# Altium integrated library TI Microcontroller MSP430 16-bit Ultra-Low Power.IntLib: 1463 symbols (part 5 of 130)
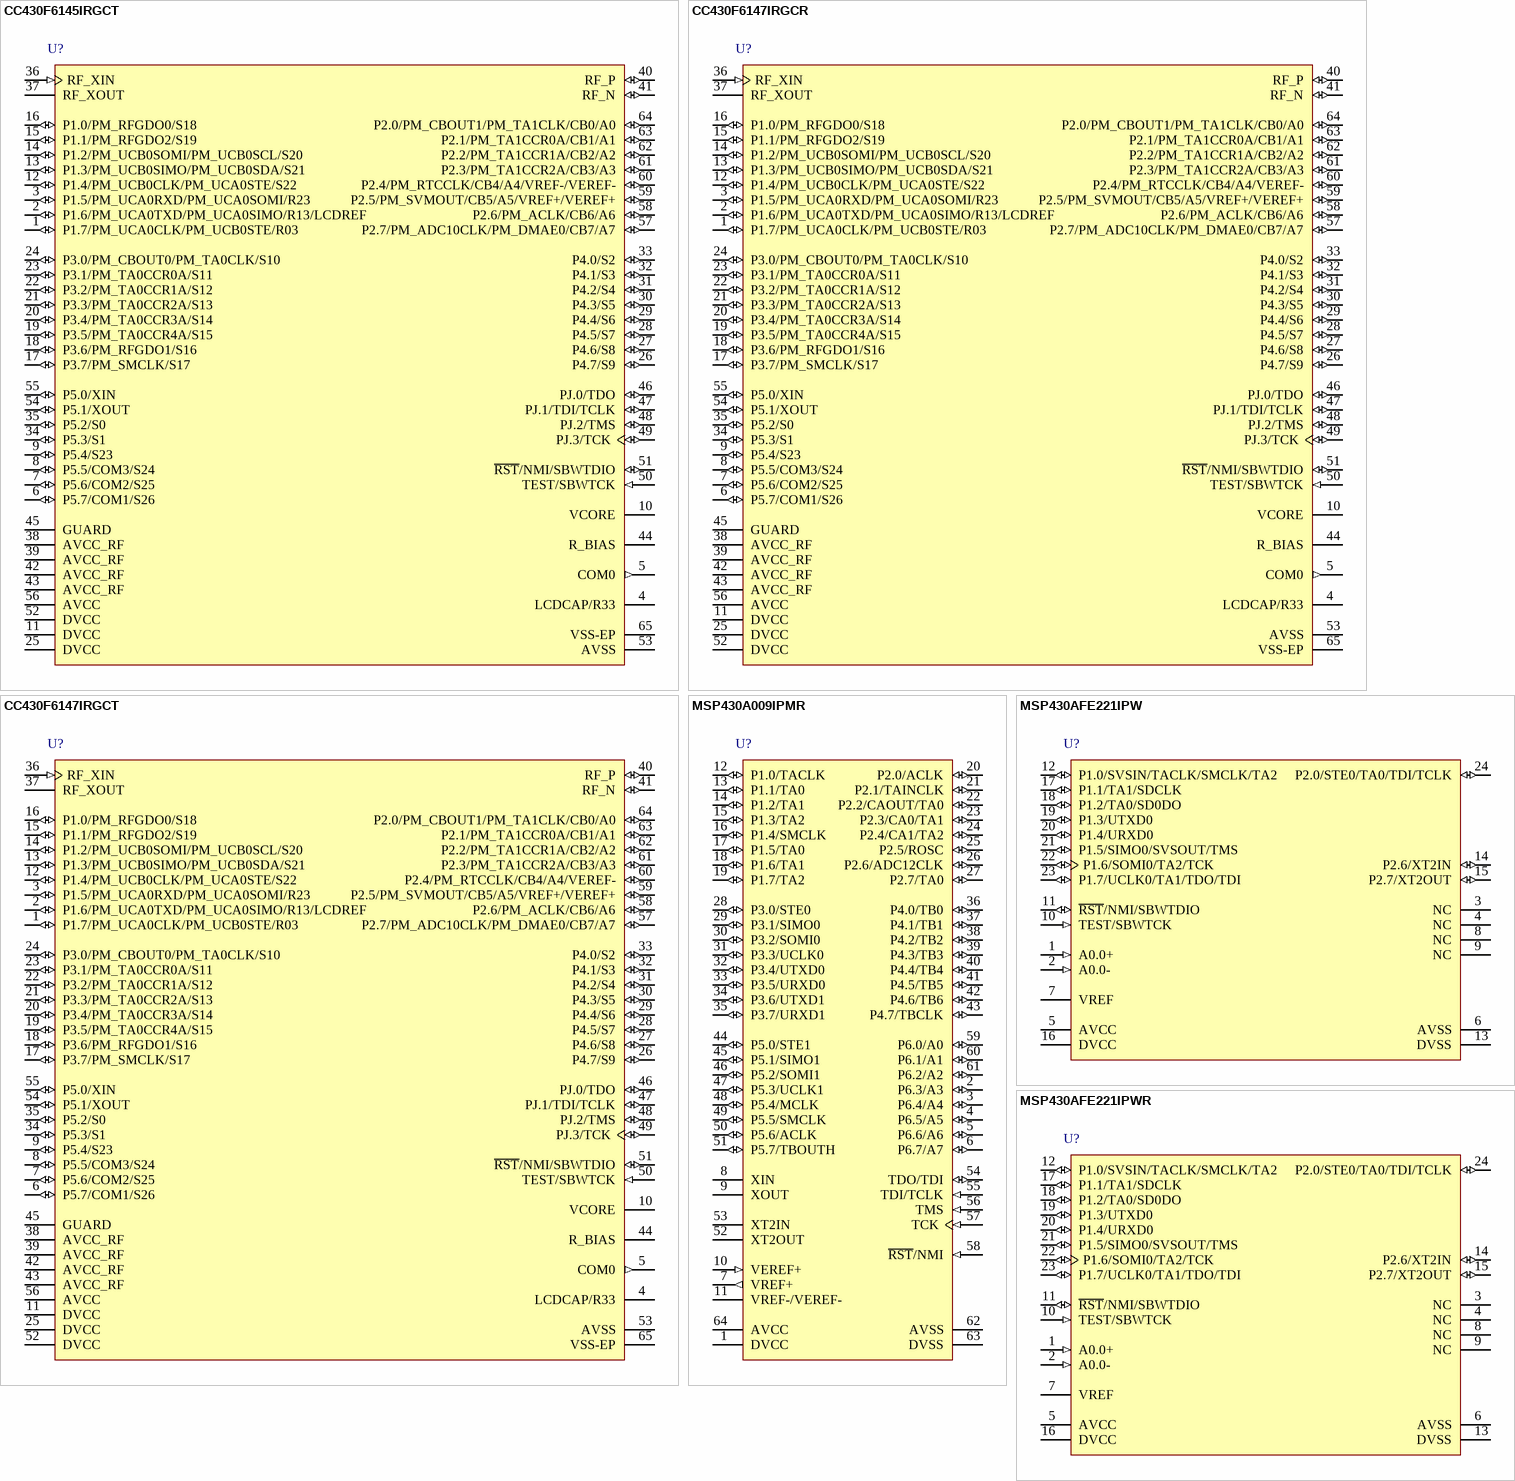
[diagram p239: symbols CC430F6145IRGCT to MSP430AFE221IPWR]

## CC430F6145IRGCT
designator U?
20 MHz MSP430 SoC with RF Core with 16 KB Flash, 2048 B SRAM and 44 GPIOs, -40 to 85 degC, 64-pin QFN (RGZ), Green (RoHS & no Sb/Br); Manufacturer: Texas Instruments; PartNumber: CC430F6145IRGCT; ADC: Yes; ADC Channels: 8; DMA: 3; Flash(KB): 16; Frequency(MHz): 20; GPIO: 44; LCD Segments: 96; Multiplier: 32x32; SRAM(B): 2048; SubFamily: RF SoC Series; Timers - 16-bit: 2; USCI_A (UART/LIN/IrDA/SPI): 1; DatasheetVersion: SLAS555; PackageVersion: 4204106/F; PackageReference: RGC64; PackageDescription: 64-Pin Plastic Flat Pack, Body 9 x 9 mm, Pitch 0.5 mm; Supplier 1: Digi-Key; Supplier Part Number 1: CC430F6145IRGCT-ND; Supplier 2: Newark; Supplier Part Number 2: 27W9349; Supplier 3: Mouser; Supplier Part Number 3: 595-CC430F6145IRGCT; Brown Out Reset: Yes; Comparators: Yes; Eco-Plan: Green (RoHS & no Sb/Br); Real-Time Clock: Yes; SVS: Yes; Temp Sensor: Yes; USCI_B (I2C & SPI): 1; Watchdog: Yes; Mounting Technology: Surface Mount; ComponentLink1Description: Manufacturer URL; ComponentLink1URL: http://www.ti.com/; ComponentLink2Description: Datasheet; ComponentLink2URL: http://www.ti.com/lit/ds/symlink/cc430f6145.pdf; ComponentLink3Description: Package Specification; ComponentLink3URL: http://www.ti.com/lit/ds/symlink/ucd3138.pdf
footprint TI-RGC64-4250X4250TP_N (QFN, 64-Leads, Body 9x9mm, Pitch 0.5mm, Thermal Pad 4.25x4.25mm, IPC Medium Density)
pins: 1 P1.7/PM_UCA0CLK/PM_UCB0STE/R03 (io), 2 P1.6/PM_UCA0TXD/PM_UCA0SIMO/R13/LCDREF (io), 3 P1.5/PM_UCA0RXD/PM_UCA0SOMI/R23 (io), 4 LCDCAP/R33, 5 COM0 (out) "LCD common output COM0 for LCD backplane", 6 P5.7/COM1/S26 (io), 7 P5.6/COM2/S25 (io), 8 P5.5/COM3/S24 (io), 9 P5.4/S23 (io), 10 VCORE "Regulated core power supply", 11 DVCC (power) "Digital power supply", 12 P1.4/PM_UCB0CLK/PM_UCA0STE/S22 (io), 13 P1.3/PM_UCB0SIMO/PM_UCB0SDA/S21 (io), 14 P1.2/PM_UCB0SOMI/PM_UCB0SCL/S20 (io), 15 P1.1/PM_RFGDO2/S19 (io), 16 P1.0/PM_RFGDO0/S18 (io), 17 P3.7/PM_SMCLK/S17 (io), 18 P3.6/PM_RFGDO1/S16 (io), 19 P3.5/PM_TA0CCR4A/S15 (io), 20 P3.4/PM_TA0CCR3A/S14 (io), 21 P3.3/PM_TA0CCR2A/S13 (io), 22 P3.2/PM_TA0CCR1A/S12 (io), 23 P3.1/PM_TA0CCR0A/S11 (io), 24 P3.0/PM_CBOUT0/PM_TA0CLK/S10 (io), 25 DVCC (power) "Digital power supply", 26 P4.7/S9 (io), 27 P4.6/S8 (io), 28 P4.5/S7 (io), 29 P4.4/S6 (io), 30 P4.3/S5 (io), 31 P4.2/S4 (io), 32 P4.1/S3 (io), 33 P4.0/S2 (io), 34 P5.3/S1 (io), 35 P5.2/S0 (io), 36 RF_XIN (in) "Input terminal for RF crystal oscillator, or external clock input", 37 RF_XOUT "Output terminal for RF crystal oscillator", 38 AVCC_RF (power) "Radio analog power supply", 39 AVCC_RF (power) "Radio analog power supply", 40 RF_P (io) "Positive RF input to LNA in receive mode Positive RF output from PA in transmit mode", 41 RF_N (io) "Negative RF input to LNA in receive mode Negative RF output from PA in transmit mode", 42 AVCC_RF (power) "Radio analog power supply", 43 AVCC_RF (power) "Radio analog power supply", 44 R_BIAS "External bias resistor for radio reference current", 45 GUARD (power) "Power supply connection for digital noise isolation", 46 PJ.0/TDO (io), 47 PJ.1/TDI/TCLK (io), 48 PJ.2/TMS (io), 49 PJ.3/TCK (io), 50 TEST/SBWTCK (in), 51 ~{RST}/NMI/SBWTDIO (io), 52 DVCC (power) "Digital power supply", 53 AVSS "Analog ground supply for ADC12", 54 P5.1/XOUT (io), 55 P5.0/XIN (io), 56 AVCC (power) "Analog power supply", 57 P2.7/PM_ADC10CLK/PM_DMAE0/CB7/A7 (io), 58 P2.6/PM_ACLK/CB6/A6 (io), 59 P2.5/PM_SVMOUT/CB5/A5/VREF+/VEREF+ (io), 60 P2.4/PM_RTCCLK/CB4/A4/VREF-/VEREF- (io), 61 P2.3/PM_TA1CCR2A/CB3/A3 (io), 62 P2.2/PM_TA1CCR1A/CB2/A2 (io), 63 P2.1/PM_TA1CCR0A/CB1/A1 (io), 64 P2.0/PM_CBOUT1/PM_TA1CLK/CB0/A0 (io), 65 VSS-EP "Ground supply The exposed die attach pad must be connected to a solid ground plane as this is the ground connection for the chip."

## CC430F6147IRGCR
designator U?
20 MHz MSP430 SoC with RF Core with 32 KB Flash, 4096 B SRAM and 44 GPIOs,-40 to 85 degC, 64-pin QFN (RGZ), Green (RoHS & no Sb/Br); Manufacturer: Texas Instruments; PartNumber: CC430F6147IRGCR; ADC: Yes; ADC Channels: 8; DMA: 3; Flash(KB): 32; Frequency(MHz): 20; GPIO: 44; LCD Segments: 96; Multiplier: 32x32; SRAM(B): 4096; SubFamily: RF SoC Series; Timers - 16-bit: 2; USCI_A (UART/LIN/IrDA/SPI): 1; DatasheetVersion: SLAS555; PackageVersion: 4204106/F; PackageReference: RGC64; PackageDescription: 64-Pin Plastic Flat Pack, Body 9 x 9 mm, Pitch 0.5 mm; Supplier 1: Digi-Key; Supplier Part Number 1: CC430F6147IRGCR-ND; Supplier 2: Newark; Supplier Part Number 2: 94T0504; Supplier 3: Mouser; Supplier Part Number 3: 595-CC430F6147IRGCR; Brown Out Reset: Yes; Comparators: Yes; Eco-Plan: Green (RoHS & no Sb/Br); Real-Time Clock: Yes; SVS: Yes; Temp Sensor: Yes; USCI_B (I2C & SPI): 1; Watchdog: Yes; Mounting Technology: Surface Mount; ComponentLink1Description: Manufacturer URL; ComponentLink1URL: http://www.ti.com/; ComponentLink2Description: Datasheet; ComponentLink2URL: http://www.ti.com/lit/ds/symlink/cc430f6147.pdf; ComponentLink3Description: Package Specification; ComponentLink3URL: http://www.ti.com/lit/ds/symlink/ucd3138.pdf
footprint TI-RGC64-4250X4250TP_N (QFN, 64-Leads, Body 9x9mm, Pitch 0.5mm, Thermal Pad 4.25x4.25mm, IPC Medium Density)
pins: 1 P1.7/PM_UCA0CLK/PM_UCB0STE/R03 (io), 2 P1.6/PM_UCA0TXD/PM_UCA0SIMO/R13/LCDREF (io), 3 P1.5/PM_UCA0RXD/PM_UCA0SOMI/R23 (io), 4 LCDCAP/R33, 5 COM0 (out) "LCD common output COM0 for LCD backplane", 6 P5.7/COM1/S26 (io), 7 P5.6/COM2/S25 (io), 8 P5.5/COM3/S24 (io), 9 P5.4/S23 (io), 10 VCORE "Regulated core power supply", 11 DVCC (power) "Digital power supply", 12 P1.4/PM_UCB0CLK/PM_UCA0STE/S22 (io), 13 P1.3/PM_UCB0SIMO/PM_UCB0SDA/S21 (io), 14 P1.2/PM_UCB0SOMI/PM_UCB0SCL/S20 (io), 15 P1.1/PM_RFGDO2/S19 (io), 16 P1.0/PM_RFGDO0/S18 (io), 17 P3.7/PM_SMCLK/S17 (io), 18 P3.6/PM_RFGDO1/S16 (io), 19 P3.5/PM_TA0CCR4A/S15 (io), 20 P3.4/PM_TA0CCR3A/S14 (io), 21 P3.3/PM_TA0CCR2A/S13 (io), 22 P3.2/PM_TA0CCR1A/S12 (io), 23 P3.1/PM_TA0CCR0A/S11 (io), 24 P3.0/PM_CBOUT0/PM_TA0CLK/S10 (io), 25 DVCC (power) "Digital power supply", 26 P4.7/S9 (io), 27 P4.6/S8 (io), 28 P4.5/S7 (io), 29 P4.4/S6 (io), 30 P4.3/S5 (io), 31 P4.2/S4 (io), 32 P4.1/S3 (io), 33 P4.0/S2 (io), 34 P5.3/S1 (io), 35 P5.2/S0 (io), 36 RF_XIN (in) "Input terminal for RF crystal oscillator or external clock input", 37 RF_XOUT "Output terminal for RF crystal oscillator", 38 AVCC_RF (power) "Radio analog power supply", 39 AVCC_RF (power) "Radio analog power supply", 40 RF_P (io) "Positive RF input to LNA in receive mode.Positive RF output from PA in transmit mode.", 41 RF_N (io) "Negative RF input to LNA in receive mode.Negative RF output from PA in transmit mode.", 42 AVCC_RF (power) "Radio analog power supply", 43 AVCC_RF (power) "Radio analog power supply", 44 R_BIAS "External bias resistor for radio reference current", 45 GUARD (power) "Power supply connection for digital noise isolation", 46 PJ.0/TDO (io), 47 PJ.1/TDI/TCLK (io), 48 PJ.2/TMS (io), 49 PJ.3/TCK (io), 50 TEST/SBWTCK (in), 51 ~{RST}/NMI/SBWTDIO (io), 52 DVCC (power) "Digital power supply", 53 AVSS "Analog ground supply for ADC10", 54 P5.1/XOUT (io), 55 P5.0/XIN (io), 56 AVCC (power) "Analog power supply", 57 P2.7/PM_ADC10CLK/PM_DMAE0/CB7/A7 (io), 58 P2.6/PM_ACLK/CB6/A6 (io), 59 P2.5/PM_SVMOUT/CB5/A5/VREF+/VEREF+ (io), 60 P2.4/PM_RTCCLK/CB4/A4/VEREF- (io), 61 P2.3/PM_TA1CCR2A/CB3/A3 (io), 62 P2.2/PM_TA1CCR1A/CB2/A2 (io), 63 P2.1/PM_TA1CCR0A/CB1/A1 (io), 64 P2.0/PM_CBOUT1/PM_TA1CLK/CB0/A0 (io), 65 VSS-EP "Ground supply.The exposed die attach pad must be connected to a solid ground plane as this is the ground connection for the chip."

## CC430F6147IRGCT
designator U?
20 MHz MSP430 SoC with RF Core with 32 KB Flash, 4096 B SRAM and 44 GPIOs,-40 to 85 degC, 64-pin QFN (RGZ), Green (RoHS & no Sb/Br); Manufacturer: Texas Instruments; PartNumber: CC430F6147IRGCT; ADC: Yes; ADC Channels: 8; DMA: 3; Flash(KB): 32; Frequency(MHz): 20; GPIO: 44; LCD Segments: 96; Multiplier: 32x32; SRAM(B): 4096; SubFamily: RF SoC Series; Timers - 16-bit: 2; USCI_A (UART/LIN/IrDA/SPI): 1; DatasheetVersion: SLAS555; PackageVersion: 4204106/F; PackageReference: RGC64; PackageDescription: 64-Pin Plastic Flat Pack, Body 9 x 9 mm, Pitch 0.5 mm; Supplier 1: Digi-Key; Supplier Part Number 1: CC430F6147IRGCT-ND; Supplier 2: Newark; Supplier Part Number 2: 27W9350; Supplier 3: Mouser; Supplier Part Number 3: 595-CC430F6147IRGCT; Brown Out Reset: Yes; Comparators: Yes; Eco-Plan: Green (RoHS & no Sb/Br); Real-Time Clock: Yes; SVS: Yes; Temp Sensor: Yes; USCI_B (I2C & SPI): 1; Watchdog: Yes; Mounting Technology: Surface Mount; ComponentLink1Description: Manufacturer URL; ComponentLink1URL: http://www.ti.com/; ComponentLink2Description: Datasheet; ComponentLink2URL: http://www.ti.com/lit/ds/symlink/cc430f6147.pdf; ComponentLink3Description: Package Specification; ComponentLink3URL: http://www.ti.com/lit/ds/symlink/ucd3138.pdf
footprint TI-RGC64-4250X4250TP_N (QFN, 64-Leads, Body 9x9mm, Pitch 0.5mm, Thermal Pad 4.25x4.25mm, IPC Medium Density)
pins: 1 P1.7/PM_UCA0CLK/PM_UCB0STE/R03 (io), 2 P1.6/PM_UCA0TXD/PM_UCA0SIMO/R13/LCDREF (io), 3 P1.5/PM_UCA0RXD/PM_UCA0SOMI/R23 (io), 4 LCDCAP/R33, 5 COM0 (out) "LCD common output COM0 for LCD backplane", 6 P5.7/COM1/S26 (io), 7 P5.6/COM2/S25 (io), 8 P5.5/COM3/S24 (io), 9 P5.4/S23 (io), 10 VCORE "Regulated core power supply", 11 DVCC (power) "Digital power supply", 12 P1.4/PM_UCB0CLK/PM_UCA0STE/S22 (io), 13 P1.3/PM_UCB0SIMO/PM_UCB0SDA/S21 (io), 14 P1.2/PM_UCB0SOMI/PM_UCB0SCL/S20 (io), 15 P1.1/PM_RFGDO2/S19 (io), 16 P1.0/PM_RFGDO0/S18 (io), 17 P3.7/PM_SMCLK/S17 (io), 18 P3.6/PM_RFGDO1/S16 (io), 19 P3.5/PM_TA0CCR4A/S15 (io), 20 P3.4/PM_TA0CCR3A/S14 (io), 21 P3.3/PM_TA0CCR2A/S13 (io), 22 P3.2/PM_TA0CCR1A/S12 (io), 23 P3.1/PM_TA0CCR0A/S11 (io), 24 P3.0/PM_CBOUT0/PM_TA0CLK/S10 (io), 25 DVCC (power) "Digital power supply", 26 P4.7/S9 (io), 27 P4.6/S8 (io), 28 P4.5/S7 (io), 29 P4.4/S6 (io), 30 P4.3/S5 (io), 31 P4.2/S4 (io), 32 P4.1/S3 (io), 33 P4.0/S2 (io), 34 P5.3/S1 (io), 35 P5.2/S0 (io), 36 RF_XIN (in) "Input terminal for RF crystal oscillator or external clock input", 37 RF_XOUT "Output terminal for RF crystal oscillator", 38 AVCC_RF (power) "Radio analog power supply", 39 AVCC_RF (power) "Radio analog power supply", 40 RF_P (io) "Positive RF input to LNA in receive mode.Positive RF output from PA in transmit mode.", 41 RF_N (io) "Negative RF input to LNA in receive mode.Negative RF output from PA in transmit mode.", 42 AVCC_RF (power) "Radio analog power supply", 43 AVCC_RF (power) "Radio analog power supply", 44 R_BIAS "External bias resistor for radio reference current", 45 GUARD (power) "Power supply connection for digital noise isolation", 46 PJ.0/TDO (io), 47 PJ.1/TDI/TCLK (io), 48 PJ.2/TMS (io), 49 PJ.3/TCK (io), 50 TEST/SBWTCK (in), 51 ~{RST}/NMI/SBWTDIO (io), 52 DVCC (power) "Digital power supply", 53 AVSS "Analog ground supply for ADC10", 54 P5.1/XOUT (io), 55 P5.0/XIN (io), 56 AVCC (power) "Analog power supply", 57 P2.7/PM_ADC10CLK/PM_DMAE0/CB7/A7 (io), 58 P2.6/PM_ACLK/CB6/A6 (io), 59 P2.5/PM_SVMOUT/CB5/A5/VREF+/VEREF+ (io), 60 P2.4/PM_RTCCLK/CB4/A4/VEREF- (io), 61 P2.3/PM_TA1CCR2A/CB3/A3 (io), 62 P2.2/PM_TA1CCR1A/CB2/A2 (io), 63 P2.1/PM_TA1CCR0A/CB1/A1 (io), 64 P2.0/PM_CBOUT1/PM_TA1CLK/CB0/A0 (io), 65 VSS-EP "Ground supply.The exposed die attach pad must be connected to a solid ground plane as this is the ground connection for the chip."

## MSP430A009IPMR
designator U?
8 MHz Mixed Signal Microcontroller with 48 KB Flash, 2048 B SRAM and 48 GPIOs, -40 to 85 degC, 64-pin QFP (PM), Green (RoHS & no Sb/Br); Manufacturer: Texas Instruments; PartNumber: MSP430A009IPMR; ADC: 12-bit SAR; ADC Channels: 8; Comparators: Yes; Flash(KB): 48; Multiplier: 16x16; SRAM(B): 2048; SubFamily: 1 Series; Timers - 16-bit: 2; DatasheetVersion: SLAS272F; PackageVersion: 4040152/C; PackageReference: PM64; PackageDescription: 64-Pin Plastic Quad Flat Pack, Body 10 x 10 mm, Pitch 0.5 mm; Supplier 1: Digi-Key; Supplier Part Number 1: MSP430A009IPMR-ND; Supplier 2: Mouser; Supplier Part Number 2: 595-MSP430A009IPMR; Eco-Plan: Green (RoHS & no Sb/Br); Frequency(MHz): 8; GPIO: 48; Temp Sensor: Yes; USART: 2; Watchdog: Yes; Mounting Technology: Surface Mount; Code_JEDEC: MS-026; ComponentLink1Description: Manufacturer URL; ComponentLink1URL: http://www.ti.com/; ComponentLink2Description: Datasheet; ComponentLink2URL: http://www.ti.com/general/docs/lit/getliterature.tsp?genericPartNumber=MSP430F148&fileType=pdf; ComponentLink3Description: Package Specification; ComponentLink3URL: http://www.ti.com/lit/ml/mtqf008a/mtqf008a.pdf
footprint TI-PM64_N (QFP, 64-Leads, Body 10x10mm, Pitch 0.5mm, IPC Medium Density)
pins: 1 DVCC (power) "Digital supply voltage, positive terminal. Supplies all digital parts.", 2 P6.3/A3 (io), 3 P6.4/A4 (io), 4 P6.5/A5 (io), 5 P6.6/A6 (io), 6 P6.7/A7 (io), 7 VREF+ (out) "Output of positive terminal of the reference voltage in the ADC", 8 XIN "Input port for crystal oscillator XT1. Standard or watch crystals can be connected.", 9 XOUT "Output terminal of crystal oscillator XT1", 10 VEREF+ (in) "Input for an external reference voltage to the ADC", 11 VREF-/VEREF-, 12 P1.0/TACLK (io), 13 P1.1/TA0 (io), 14 P1.2/TA1 (io), 15 P1.3/TA2 (io), 16 P1.4/SMCLK (io), 17 P1.5/TA0 (io), 18 P1.6/TA1 (io), 19 P1.7/TA2 (io), 20 P2.0/ACLK (io), 21 P2.1/TAINCLK (io), 22 P2.2/CAOUT/TA0 (io), 23 P2.3/CA0/TA1 (io), 24 P2.4/CA1/TA2 (io), 25 P2.5/ROSC (io), 26 P2.6/ADC12CLK (io), 27 P2.7/TA0 (io), 28 P3.0/STE0 (io), 29 P3.1/SIMO0 (io), 30 P3.2/SOMI0 (io), 31 P3.3/UCLK0 (io), 32 P3.4/UTXD0 (io), 33 P3.5/URXD0 (io), 34 P3.6/UTXD1 (io), 35 P3.7/URXD1 (io), 36 P4.0/TB0 (io), 37 P4.1/TB1 (io), 38 P4.2/TB2 (io), 39 P4.3/TB3 (io), 40 P4.4/TB4 (io), 41 P4.5/TB5 (io), 42 P4.6/TB6 (io), 43 P4.7/TBCLK (io), 44 P5.0/STE1 (io), 45 P5.1/SIMO1 (io), 46 P5.2/SOMI1 (io), 47 P5.3/UCLK1 (io), 48 P5.4/MCLK (io), 49 P5.5/SMCLK (io), 50 P5.6/ACLK (io), 51 P5.7/TBOUTH (io), 52 XT2OUT "Output terminal of crystal oscillator XT2", 53 XT2IN "Input port for crystal oscillator XT2. Only standard crystals can be connected.", 54 TDO/TDI (io), 55 TDI/TCLK (in), 56 TMS (in) "Test mode select. TMS is used as an input port for device programming and test.", 57 TCK (in) "Test clock. TCK is the clock input port for device programming test and bootstrap loader start (in Flash devices).", 58 ~{RST}/NMI (in), 59 P6.0/A0 (io), 60 P6.1/A1 (io), 61 P6.2/A2 (io), 62 AVSS (power) "Analog supply voltage, negative terminal. Supplies the analog portion of the analog-to-digital converter.", 63 DVSS (power) "Digital supply voltage, negative terminal. Supplies all digital parts.", 64 AVCC (power) "Analog supply voltage, positive terminal. Supplies the analog portion of the analog-to-digital converter."

## MSP430AFE221IPW
designator U?
12 MHz Mixed Signal Microcontroller with 4 KB Flash, 256 B SRAM and 11 GPIOs, 24-pin SOP (PW), Green (RoHS & no Sb/Br); Manufacturer: Texas Instruments; PartNumber: MSP430AFE221IPW; ADC: 24-bit Sigma Delta; ADC Channels: 1; Brown Out Reset: Yes; Flash(KB): 4; Frequency(MHz): 12; GPIO: 11; Multiplier: 16x16; SRAM(B): 256; SubFamily: 2 Series; DatasheetVersion: SLAS701A; PackageVersion: 4040064-6/G; PackageReference: PW24; PackageDescription: 24-Pin Plastic Small Outline, Body 7.8 x 4.4 mm, Pitch 0.65 mm; Supplier 1: Digi-Key; Supplier Part Number 1: 296-28393-ND; Supplier 2: Farnell; Supplier Part Number 2: 2008422; Supplier 3: Newark; Supplier Part Number 3: 45T9748; Supplier 4: Mouser; Supplier Part Number 4: 595-MSP430AFE221IPW; Eco-Plan: Green (RoHS & no Sb/Br); SVS: Yes; Temp Sensor: Yes; Timers - 16-bit: 1; USART: 1; Watchdog: Yes; Mounting Technology: Surface Mount; Code_JEDEC: MO-153; ComponentLink1Description: Manufacturer URL; ComponentLink1URL: http://www.ti.com/; ComponentLink2Description: Datasheet; ComponentLink2URL: http://www.ti.com/general/docs/lit/getliterature.tsp?genericPartNumber=MSP430AFE221&fileType=pdf; ComponentLink3Description: Package Specification; ComponentLink3URL: http://www.ti.com/litv/pdf/mpds363
footprint TI-PW24_N (SOP, 24-Leads, Body 7.8x4.4mm, Pitch 0.65mm, IPC Medium Density)
pins: 1 A0.0+ (in) "SD24_A positive analog input A0.0", 2 A0.0- (in) "SD24_A negative analog input A0.0", 3 NC "Connect NC pins to analog ground (AVSS)", 4 NC "Connect NC pins to analog ground (AVSS)", 5 AVCC (power) "Analog supply voltage, positive terminal. Must not power up prior to DVCC.", 6 AVSS (power) "Analog supply voltage, negative terminal", 7 VREF "Input for an external reference voltage/ output for internal reference voltage (can be used as mid-voltage)", 8 NC "Connect NC pins to analog ground (AVSS)", 9 NC "Connect NC pins to analog ground (AVSS)", 10 TEST/SBWTCK (in), 11 ~{RST}/NMI/SBWTDIO (io), 12 P1.0/SVSIN/TACLK/SMCLK/TA2 (io), 13 DVSS (power) "Digital supply voltage, negative terminal", 14 P2.6/XT2IN (io), 15 P2.7/XT2OUT (io), 16 DVCC (power) "Digital supply voltage, positive terminal.", 17 P1.1/TA1/SDCLK (io), 18 P1.2/TA0/SD0DO (io), 19 P1.3/UTXD0 (io), 20 P1.4/URXD0 (io), 21 P1.5/SIMO0/SVSOUT/TMS (io), 22 P1.6/SOMI0/TA2/TCK (io), 23 P1.7/UCLK0/TA1/TDO/TDI (io), 24 P2.0/STE0/TA0/TDI/TCLK (io)

## MSP430AFE221IPWR
designator U?
12 MHz Mixed Signal Microcontroller with 4 KB Flash, 256 B SRAM and 11 GPIOs, 24-pin SOP (PW), Green (RoHS & no Sb/Br); Manufacturer: Texas Instruments; PartNumber: MSP430AFE221IPWR; ADC: 24-bit Sigma Delta; ADC Channels: 1; Brown Out Reset: Yes; Flash(KB): 4; Frequency(MHz): 12; GPIO: 11; Multiplier: 16x16; SRAM(B): 256; SubFamily: 2 Series; DatasheetVersion: SLAS701A; PackageVersion: 4040064-6/G; PackageReference: PW24; PackageDescription: 24-Pin Plastic Small Outline, Body 7.8 x 4.4 mm, Pitch 0.65 mm; Supplier 1: Digi-Key; Supplier Part Number 1: MSP430AFE221IPWR-ND; Supplier 2: Mouser; Supplier Part Number 2: 595-MSP430AFE221IPWR; Eco-Plan: Green (RoHS & no Sb/Br); SVS: Yes; Temp Sensor: Yes; Timers - 16-bit: 1; USART: 1; Watchdog: Yes; Mounting Technology: Surface Mount; Code_JEDEC: MO-153; ComponentLink1Description: Manufacturer URL; ComponentLink1URL: http://www.ti.com/; ComponentLink2Description: Datasheet; ComponentLink2URL: http://www.ti.com/general/docs/lit/getliterature.tsp?genericPartNumber=MSP430AFE221&fileType=pdf; ComponentLink3Description: Package Specification; ComponentLink3URL: http://www.ti.com/litv/pdf/mpds363
footprint TI-PW24_N (SOP, 24-Leads, Body 7.8x4.4mm, Pitch 0.65mm, IPC Medium Density)
pins: 1 A0.0+ (in) "SD24_A positive analog input A0.0", 2 A0.0- (in) "SD24_A negative analog input A0.0", 3 NC "Connect NC pins to analog ground (AVSS)", 4 NC "Connect NC pins to analog ground (AVSS)", 5 AVCC (power) "Analog supply voltage, positive terminal. Must not power up prior to DVCC.", 6 AVSS (power) "Analog supply voltage, negative terminal", 7 VREF "Input for an external reference voltage/ output for internal reference voltage (can be used as mid-voltage)", 8 NC "Connect NC pins to analog ground (AVSS)", 9 NC "Connect NC pins to analog ground (AVSS)", 10 TEST/SBWTCK (in), 11 ~{RST}/NMI/SBWTDIO (io), 12 P1.0/SVSIN/TACLK/SMCLK/TA2 (io), 13 DVSS (power) "Digital supply voltage, negative terminal", 14 P2.6/XT2IN (io), 15 P2.7/XT2OUT (io), 16 DVCC (power) "Digital supply voltage, positive terminal.", 17 P1.1/TA1/SDCLK (io), 18 P1.2/TA0/SD0DO (io), 19 P1.3/UTXD0 (io), 20 P1.4/URXD0 (io), 21 P1.5/SIMO0/SVSOUT/TMS (io), 22 P1.6/SOMI0/TA2/TCK (io), 23 P1.7/UCLK0/TA1/TDO/TDI (io), 24 P2.0/STE0/TA0/TDI/TCLK (io)

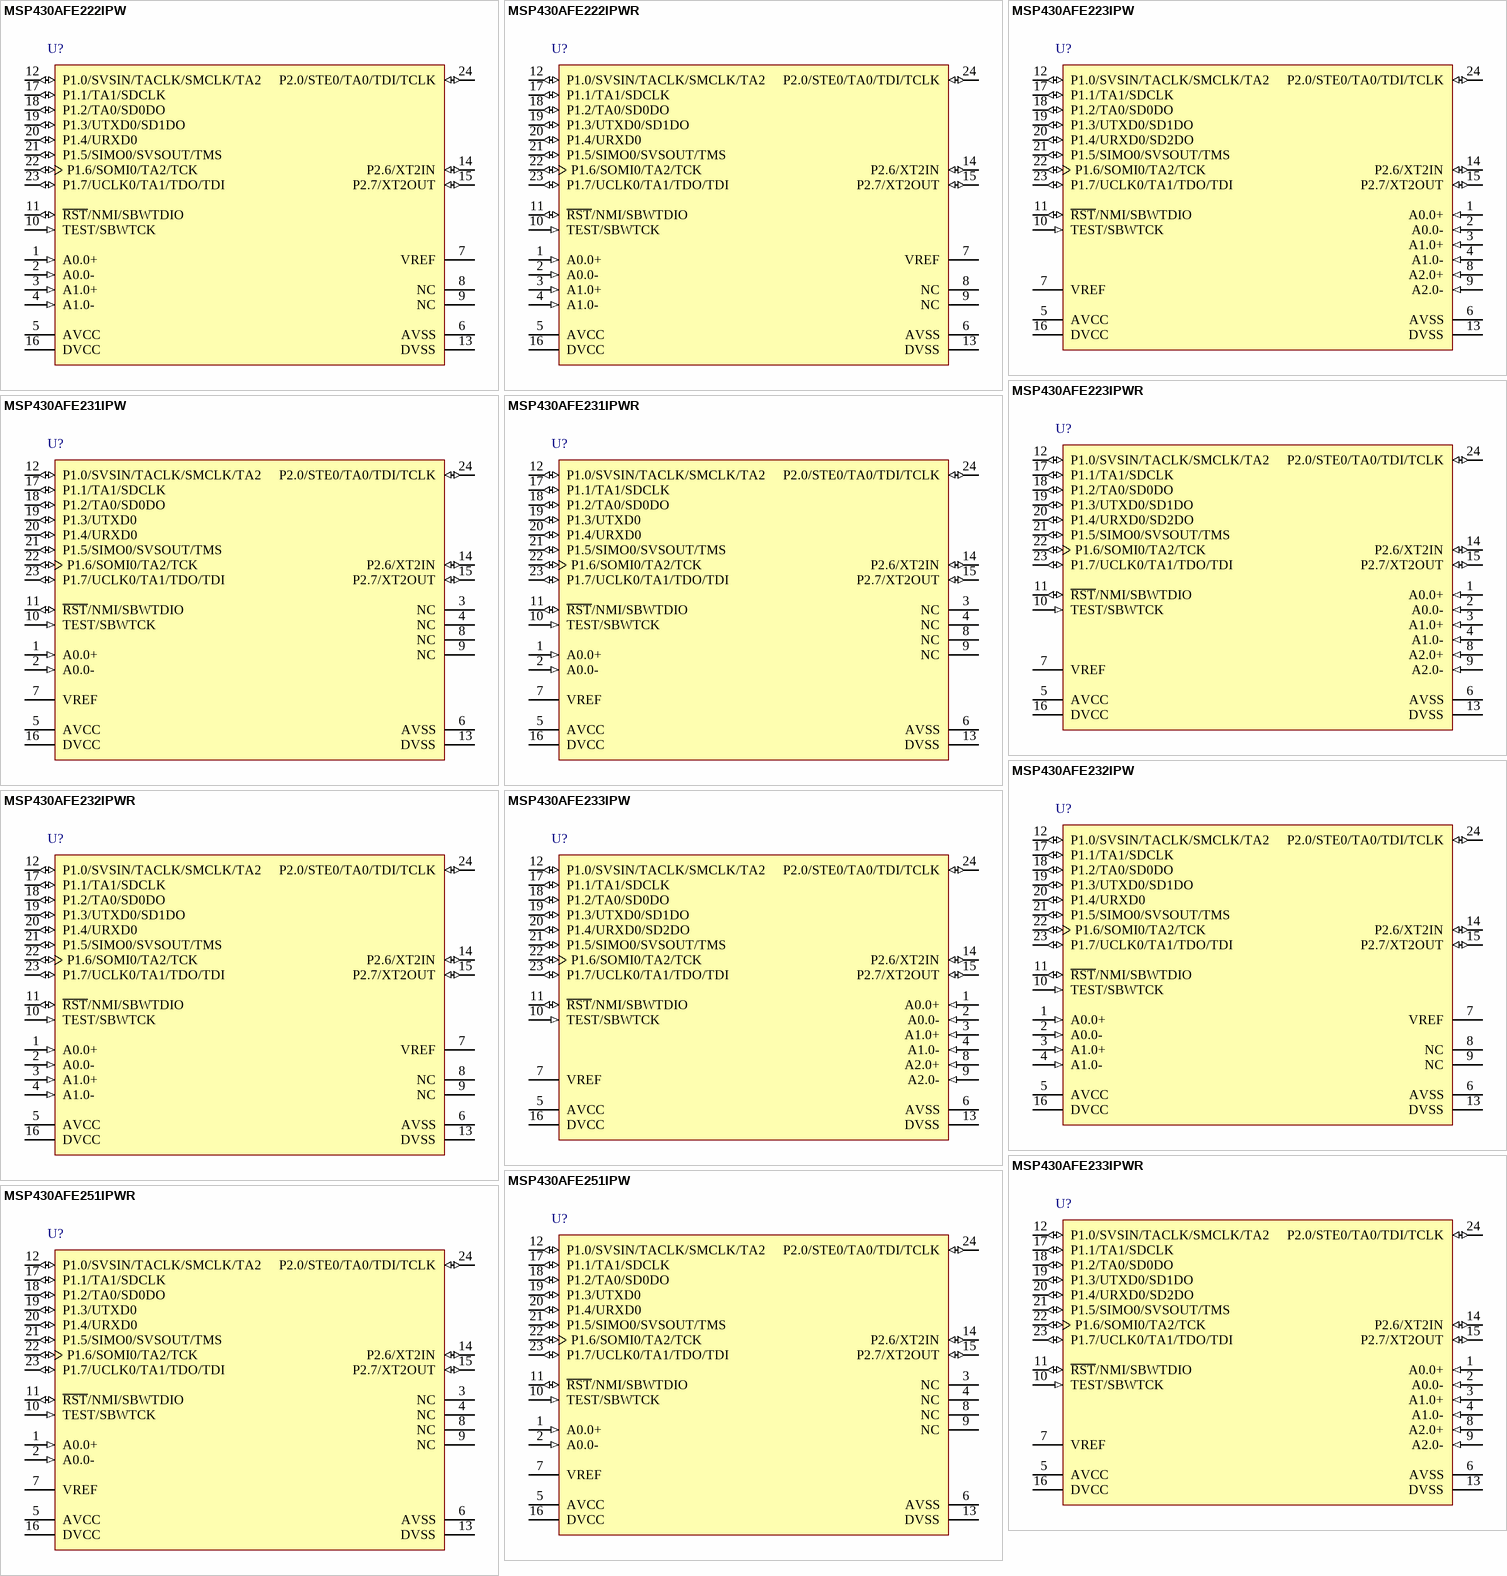
[diagram p10: symbols MSP430AFE222IPW to MSP430AFE251IPWR]

## MSP430AFE222IPW
designator U?
12 MHz Mixed Signal Microcontroller with 4 KB Flash, 256 B SRAM and 11 GPIOs, 24-pin SOP (PW), Green (RoHS & no Sb/Br); Manufacturer: Texas Instruments; PartNumber: MSP430AFE222IPW; ADC: 24-bit Sigma Delta; ADC Channels: 2; Brown Out Reset: Yes; Flash(KB): 4; Frequency(MHz): 12; GPIO: 11; Multiplier: 16x16; SRAM(B): 256; SubFamily: 2 Series; Timers - 16-bit: 1; DatasheetVersion: SLAS701A; PackageVersion: 4040064-6/G; PackageReference: PW24; PackageDescription: 24-Pin Plastic Small Outline, Body 7.8 x 4.4 mm, Pitch 0.65 mm; Supplier 1: Digi-Key; Supplier Part Number 1: MSP430AFE222IPW-ND; Supplier 2: Mouser; Supplier Part Number 2: 595-MSP430AFE222IPW; Eco-Plan: Green (RoHS & no Sb/Br); SVS: Yes; Temp Sensor: Yes; USART: 1; Watchdog: Yes; Mounting Technology: Surface Mount; Code_JEDEC: MO-153; ComponentLink1Description: Manufacturer URL; ComponentLink1URL: http://www.ti.com/; ComponentLink2Description: Datasheet; ComponentLink2URL: http://www.ti.com/general/docs/lit/getliterature.tsp?genericPartNumber=MSP430AFE222&fileType=pdf; ComponentLink3Description: Package Specification; ComponentLink3URL: http://www.ti.com/litv/pdf/mpds363
footprint TI-PW24_N (SOP, 24-Leads, Body 7.8x4.4mm, Pitch 0.65mm, IPC Medium Density)
pins: 1 A0.0+ (in) "SD24_A positive analog input A0.0", 2 A0.0- (in) "SD24_A negative analog input A0.0", 3 A1.0+ (in) "SD24_A positive analog input A1.0", 4 A1.0- (in) "SD24_A negative analog input A1.0", 5 AVCC (power) "Analog supply voltage, positive terminal. Must not power up prior to DVCC", 6 AVSS (power) "Analog supply voltage, negative terminal", 7 VREF "Input for an external reference voltage/ output for internal reference voltage (can be used as mid-voltage)", 8 NC, 9 NC, 10 TEST/SBWTCK (in), 11 ~{RST}/NMI/SBWTDIO (io), 12 P1.0/SVSIN/TACLK/SMCLK/TA2 (io), 13 DVSS (power) "Digital supply voltage, negative terminal", 14 P2.6/XT2IN (io), 15 P2.7/XT2OUT (io), 16 DVCC (power) "Digital supply voltage, positive terminal.", 17 P1.1/TA1/SDCLK (io), 18 P1.2/TA0/SD0DO (io), 19 P1.3/UTXD0/SD1DO (io), 20 P1.4/URXD0 (io), 21 P1.5/SIMO0/SVSOUT/TMS (io), 22 P1.6/SOMI0/TA2/TCK (io), 23 P1.7/UCLK0/TA1/TDO/TDI (io), 24 P2.0/STE0/TA0/TDI/TCLK (io)

## MSP430AFE222IPWR
designator U?
12 MHz Mixed Signal Microcontroller with 4 KB Flash, 256 B SRAM and 11 GPIOs, 24-pin SOP (PW), Green (RoHS & no Sb/Br); Manufacturer: Texas Instruments; PartNumber: MSP430AFE222IPWR; ADC: 24-bit Sigma Delta; ADC Channels: 2; Brown Out Reset: Yes; Flash(KB): 4; Frequency(MHz): 12; GPIO: 11; Multiplier: 16x16; SRAM(B): 256; SubFamily: 2 Series; Timers - 16-bit: 1; DatasheetVersion: SLAS701A; PackageVersion: 4040064-6/G; PackageReference: PW24; PackageDescription: 24-Pin Plastic Small Outline, Body 7.8 x 4.4 mm, Pitch 0.65 mm; Supplier 1: Digi-Key; Supplier Part Number 1: MSP430AFE222IPWR-ND; Supplier 2: Mouser; Supplier Part Number 2: 595-MSP430AFE222IPWR; Eco-Plan: Green (RoHS & no Sb/Br); SVS: Yes; Temp Sensor: Yes; USART: 1; Watchdog: Yes; Mounting Technology: Surface Mount; Code_JEDEC: MO-153; ComponentLink1Description: Manufacturer URL; ComponentLink1URL: http://www.ti.com/; ComponentLink2Description: Datasheet; ComponentLink2URL: http://www.ti.com/general/docs/lit/getliterature.tsp?genericPartNumber=MSP430AFE222&fileType=pdf; ComponentLink3Description: Package Specification; ComponentLink3URL: http://www.ti.com/litv/pdf/mpds363
footprint TI-PW24_N (SOP, 24-Leads, Body 7.8x4.4mm, Pitch 0.65mm, IPC Medium Density)
pins: 1 A0.0+ (in) "SD24_A positive analog input A0.0", 2 A0.0- (in) "SD24_A negative analog input A0.0", 3 A1.0+ (in) "SD24_A positive analog input A1.0", 4 A1.0- (in) "SD24_A negative analog input A1.0", 5 AVCC (power) "Analog supply voltage, positive terminal. Must not power up prior to DVCC", 6 AVSS (power) "Analog supply voltage, negative terminal", 7 VREF "Input for an external reference voltage/ output for internal reference voltage (can be used as mid-voltage)", 8 NC, 9 NC, 10 TEST/SBWTCK (in), 11 ~{RST}/NMI/SBWTDIO (io), 12 P1.0/SVSIN/TACLK/SMCLK/TA2 (io), 13 DVSS (power) "Digital supply voltage, negative terminal", 14 P2.6/XT2IN (io), 15 P2.7/XT2OUT (io), 16 DVCC (power) "Digital supply voltage, positive terminal.", 17 P1.1/TA1/SDCLK (io), 18 P1.2/TA0/SD0DO (io), 19 P1.3/UTXD0/SD1DO (io), 20 P1.4/URXD0 (io), 21 P1.5/SIMO0/SVSOUT/TMS (io), 22 P1.6/SOMI0/TA2/TCK (io), 23 P1.7/UCLK0/TA1/TDO/TDI (io), 24 P2.0/STE0/TA0/TDI/TCLK (io)

## MSP430AFE223IPW
designator U?
12 MHz Mixed Signal Microcontroller with 4 KB Flash, 256 B SRAM and 11 GPIOs, 24-pin SOP (PW), Green (RoHS & no Sb/Br); Manufacturer: Texas Instruments; PartNumber: MSP430AFE223IPW; ADC: 24-bit Sigma Delta; ADC Channels: 3; Brown Out Reset: Yes; Flash(KB): 4; Frequency(MHz): 12; GPIO: 11; Multiplier: 16x16; SRAM(B): 256; SubFamily: 2 Series; Timers - 16-bit: 1; DatasheetVersion: SLAS701A; PackageVersion: 4040064-6/G; PackageReference: PW24; PackageDescription: 24-Pin Plastic Small Outline, Body 7.8 x 4.4 mm, Pitch 0.65 mm; Supplier 1: Digi-Key; Supplier Part Number 1: MSP430AFE223IPW-ND; Supplier 2: Mouser; Supplier Part Number 2: 595-MSP430AFE223IPW; Eco-Plan: Green (RoHS & no Sb/Br); SVS: Yes; Temp Sensor: Yes; USART: 1; Watchdog: Yes; Mounting Technology: Surface Mount; Code_JEDEC: MO-153; ComponentLink1Description: Manufacturer URL; ComponentLink1URL: http://www.ti.com/; ComponentLink2Description: Datasheet; ComponentLink2URL: http://www.ti.com/general/docs/lit/getliterature.tsp?genericPartNumber=MSP430AFE223&fileType=pdf; ComponentLink3Description: Package Specification; ComponentLink3URL: http://www.ti.com/litv/pdf/mpds363
footprint TI-PW24_N (SOP, 24-Leads, Body 7.8x4.4mm, Pitch 0.65mm, IPC Medium Density)
pins: 1 A0.0+ (in) "SD24_A positive analog input A0.0", 2 A0.0- (in) "SD24_A negative analog input A0.0", 3 A1.0+ (in) "SD24_A positive analog input A1.0 (not available on MSP430AFE2x1)", 4 A1.0- (in) "SD24_A negative analog input A1.0 (not available on MSP430AFE2x1)", 5 AVCC (power) "Analog supply voltage, positive terminal. Must not power up prior to DVCC.", 6 AVSS (power) "Analog supply voltage, negative terminal", 7 VREF "Input for an external reference voltage/ output for internal reference voltage (can be used as mid-voltage)", 8 A2.0+ (in) "SD24_A positive analog input A2.0 (not available on MSP430AFE2x2 and MSP430AFE2x1)", 9 A2.0- (in) "SD24_A negative analog input A2.0 (not available on MSP430AFE2x2 and MSP430AFE2x1)", 10 TEST/SBWTCK (in) "Digital supply voltage, negative terminal", 11 ~{RST}/NMI/SBWTDIO (io), 12 P1.0/SVSIN/TACLK/SMCLK/TA2 (io), 13 DVSS (power) "Digital supply voltage, negative terminal", 14 P2.6/XT2IN (io), 15 P2.7/XT2OUT (io), 16 DVCC (power) "Digital supply voltage, positive terminal.", 17 P1.1/TA1/SDCLK (io), 18 P1.2/TA0/SD0DO (io), 19 P1.3/UTXD0/SD1DO (io), 20 P1.4/URXD0/SD2DO (io), 21 P1.5/SIMO0/SVSOUT/TMS (io), 22 P1.6/SOMI0/TA2/TCK (io), 23 P1.7/UCLK0/TA1/TDO/TDI (io), 24 P2.0/STE0/TA0/TDI/TCLK (io) "Input for an external reference voltage/ output for internal reference voltage (can be used as mid-voltage)"

## MSP430AFE223IPWR
designator U?
12 MHz Mixed Signal Microcontroller with 4 KB Flash, 256 B SRAM and 11 GPIOs, 24-pin SOP (PW), Green (RoHS & no Sb/Br); Manufacturer: Texas Instruments; PartNumber: MSP430AFE223IPWR; ADC: 24-bit Sigma Delta; ADC Channels: 3; Brown Out Reset: Yes; Flash(KB): 4; Frequency(MHz): 12; GPIO: 11; Multiplier: 16x16; SRAM(B): 256; SubFamily: 2 Series; Timers - 16-bit: 1; DatasheetVersion: SLAS701A; PackageVersion: 4040064-6/G; PackageReference: PW24; PackageDescription: 24-Pin Plastic Small Outline, Body 7.8 x 4.4 mm, Pitch 0.65 mm; Supplier 1: Digi-Key; Supplier Part Number 1: MSP430AFE223IPWR-ND; Supplier 2: Newark; Supplier Part Number 2: 40T4862; Supplier 3: Mouser; Supplier Part Number 3: 595-MSP430AFE223IPWR; Eco-Plan: Green (RoHS & no Sb/Br); SVS: Yes; Temp Sensor: Yes; USART: 1; Watchdog: Yes; Mounting Technology: Surface Mount; Code_JEDEC: MO-153; ComponentLink1Description: Manufacturer URL; ComponentLink1URL: http://www.ti.com/; ComponentLink2Description: Datasheet; ComponentLink2URL: http://www.ti.com/general/docs/lit/getliterature.tsp?genericPartNumber=MSP430AFE223&fileType=pdf; ComponentLink3Description: Package Specification; ComponentLink3URL: http://www.ti.com/litv/pdf/mpds363
footprint TI-PW24_N (SOP, 24-Leads, Body 7.8x4.4mm, Pitch 0.65mm, IPC Medium Density)
pins: 1 A0.0+ (in) "SD24_A positive analog input A0.0", 2 A0.0- (in) "SD24_A negative analog input A0.0", 3 A1.0+ (in) "SD24_A positive analog input A1.0 (not available on MSP430AFE2x1)", 4 A1.0- (in) "SD24_A negative analog input A1.0 (not available on MSP430AFE2x1)", 5 AVCC (power) "Analog supply voltage, positive terminal. Must not power up prior to DVCC.", 6 AVSS (power) "Analog supply voltage, negative terminal", 7 VREF "Input for an external reference voltage/ output for internal reference voltage (can be used as mid-voltage)", 8 A2.0+ (in) "SD24_A positive analog input A2.0 (not available on MSP430AFE2x2 and MSP430AFE2x1)", 9 A2.0- (in) "SD24_A negative analog input A2.0 (not available on MSP430AFE2x2 and MSP430AFE2x1)", 10 TEST/SBWTCK (in) "Digital supply voltage, negative terminal", 11 ~{RST}/NMI/SBWTDIO (io), 12 P1.0/SVSIN/TACLK/SMCLK/TA2 (io), 13 DVSS (power) "Digital supply voltage, negative terminal", 14 P2.6/XT2IN (io), 15 P2.7/XT2OUT (io), 16 DVCC (power) "Digital supply voltage, positive terminal.", 17 P1.1/TA1/SDCLK (io), 18 P1.2/TA0/SD0DO (io), 19 P1.3/UTXD0/SD1DO (io), 20 P1.4/URXD0/SD2DO (io), 21 P1.5/SIMO0/SVSOUT/TMS (io), 22 P1.6/SOMI0/TA2/TCK (io), 23 P1.7/UCLK0/TA1/TDO/TDI (io), 24 P2.0/STE0/TA0/TDI/TCLK (io) "Input for an external reference voltage/ output for internal reference voltage (can be used as mid-voltage)"

## MSP430AFE231IPW
designator U?
12 MHz Mixed Signal Microcontroller with 8 KB Flash, 512 B SRAM and 11 GPIOs, 24-pin SOP (PW), Green (RoHS & no Sb/Br); Manufacturer: Texas Instruments; PartNumber: MSP430AFE231IPW; ADC: 24-bit Sigma Delta; ADC Channels: 1; Brown Out Reset: Yes; Flash(KB): 8; Frequency(MHz): 12; GPIO: 11; Multiplier: 16x16; SRAM(B): 512; SubFamily: 2 Series; DatasheetVersion: SLAS701A; PackageVersion: 4040064-6/G; PackageReference: PW24; PackageDescription: 24-Pin Plastic Small Outline, Body 7.8 x 4.4 mm, Pitch 0.65 mm; Supplier 1: Digi-Key; Supplier Part Number 1: MSP430AFE231IPW-ND; Supplier 2: Newark; Supplier Part Number 2: 45T9751; Supplier 3: Mouser; Supplier Part Number 3: 595-MSP430AFE231IPW; Eco-Plan: Green (RoHS & no Sb/Br); SVS: Yes; Temp Sensor: Yes; Timers - 16-bit: 1; USART: 1; Watchdog: Yes; Mounting Technology: Surface Mount; Code_JEDEC: MO-153; ComponentLink1Description: Manufacturer URL; ComponentLink1URL: http://www.ti.com/; ComponentLink2Description: Datasheet; ComponentLink2URL: http://www.ti.com/general/docs/lit/getliterature.tsp?genericPartNumber=MSP430AFE231&fileType=pdf; ComponentLink3Description: Package Specification; ComponentLink3URL: http://www.ti.com/litv/pdf/mpds363
footprint TI-PW24_N (SOP, 24-Leads, Body 7.8x4.4mm, Pitch 0.65mm, IPC Medium Density)
pins: 1 A0.0+ (in) "SD24_A positive analog input A0.0", 2 A0.0- (in) "SD24_A negative analog input A0.0", 3 NC "Connect NC pins to analog ground (AVSS)", 4 NC "Connect NC pins to analog ground (AVSS)", 5 AVCC (power) "Analog supply voltage, positive terminal. Must not power up prior to DVCC.", 6 AVSS (power) "Analog supply voltage, negative terminal", 7 VREF "Input for an external reference voltage/ output for internal reference voltage (can be used as mid-voltage)", 8 NC "Connect NC pins to analog ground (AVSS)", 9 NC "Connect NC pins to analog ground (AVSS)", 10 TEST/SBWTCK (in), 11 ~{RST}/NMI/SBWTDIO (io), 12 P1.0/SVSIN/TACLK/SMCLK/TA2 (io), 13 DVSS (power) "Digital supply voltage, negative terminal", 14 P2.6/XT2IN (io), 15 P2.7/XT2OUT (io), 16 DVCC (power) "Digital supply voltage, positive terminal.", 17 P1.1/TA1/SDCLK (io), 18 P1.2/TA0/SD0DO (io), 19 P1.3/UTXD0 (io), 20 P1.4/URXD0 (io), 21 P1.5/SIMO0/SVSOUT/TMS (io), 22 P1.6/SOMI0/TA2/TCK (io), 23 P1.7/UCLK0/TA1/TDO/TDI (io), 24 P2.0/STE0/TA0/TDI/TCLK (io)

## MSP430AFE231IPWR
designator U?
12 MHz Mixed Signal Microcontroller with 8 KB Flash, 512 B SRAM and 11 GPIOs, 24-pin SOP (PW), Green (RoHS & no Sb/Br); Manufacturer: Texas Instruments; PartNumber: MSP430AFE231IPWR; ADC: 24-bit Sigma Delta; ADC Channels: 1; Brown Out Reset: Yes; Flash(KB): 8; Frequency(MHz): 12; GPIO: 11; Multiplier: 16x16; SRAM(B): 512; SubFamily: 2 Series; DatasheetVersion: SLAS701A; PackageVersion: 4040064-6/G; PackageReference: PW24; PackageDescription: 24-Pin Plastic Small Outline, Body 7.8 x 4.4 mm, Pitch 0.65 mm; Supplier 1: Digi-Key; Supplier Part Number 1: MSP430AFE231IPWR-ND; Supplier 2: Newark; Supplier Part Number 2: 40T4863; Supplier 3: Mouser; Supplier Part Number 3: 595-MSP430AFE231IPWR; Eco-Plan: Green (RoHS & no Sb/Br); SVS: Yes; Temp Sensor: Yes; Timers - 16-bit: 1; USART: 1; Watchdog: Yes; Mounting Technology: Surface Mount; Code_JEDEC: MO-153; ComponentLink1Description: Manufacturer URL; ComponentLink1URL: http://www.ti.com/; ComponentLink2Description: Datasheet; ComponentLink2URL: http://www.ti.com/general/docs/lit/getliterature.tsp?genericPartNumber=MSP430AFE231&fileType=pdf; ComponentLink3Description: Package Specification; ComponentLink3URL: http://www.ti.com/litv/pdf/mpds363
footprint TI-PW24_N (SOP, 24-Leads, Body 7.8x4.4mm, Pitch 0.65mm, IPC Medium Density)
pins: 1 A0.0+ (in) "SD24_A positive analog input A0.0", 2 A0.0- (in) "SD24_A negative analog input A0.0", 3 NC "Connect NC pins to analog ground (AVSS)", 4 NC "Connect NC pins to analog ground (AVSS)", 5 AVCC (power) "Analog supply voltage, positive terminal. Must not power up prior to DVCC.", 6 AVSS (power) "Analog supply voltage, negative terminal", 7 VREF "Input for an external reference voltage/ output for internal reference voltage (can be used as mid-voltage)", 8 NC "Connect NC pins to analog ground (AVSS)", 9 NC "Connect NC pins to analog ground (AVSS)", 10 TEST/SBWTCK (in), 11 ~{RST}/NMI/SBWTDIO (io), 12 P1.0/SVSIN/TACLK/SMCLK/TA2 (io), 13 DVSS (power) "Digital supply voltage, negative terminal", 14 P2.6/XT2IN (io), 15 P2.7/XT2OUT (io), 16 DVCC (power) "Digital supply voltage, positive terminal.", 17 P1.1/TA1/SDCLK (io), 18 P1.2/TA0/SD0DO (io), 19 P1.3/UTXD0 (io), 20 P1.4/URXD0 (io), 21 P1.5/SIMO0/SVSOUT/TMS (io), 22 P1.6/SOMI0/TA2/TCK (io), 23 P1.7/UCLK0/TA1/TDO/TDI (io), 24 P2.0/STE0/TA0/TDI/TCLK (io)

## MSP430AFE232IPW
designator U?
12 MHz Mixed Signal Microcontroller with 8 KB Flash, 512 B SRAM and 11 GPIOs, 24-pin SOP (PW), Green (RoHS & no Sb/Br); Manufacturer: Texas Instruments; PartNumber: MSP430AFE232IPW; ADC: 24-bit Sigma Delta; ADC Channels: 2; Brown Out Reset: Yes; Flash(KB): 8; Frequency(MHz): 12; GPIO: 11; Multiplier: 16x16; SRAM(B): 512; SubFamily: 2 Series; Timers - 16-bit: 1; DatasheetVersion: SLAS701A; PackageVersion: 4040064-6/G; PackageReference: PW24; PackageDescription: 24-Pin Plastic Small Outline, Body 7.8 x 4.4 mm, Pitch 0.65 mm; Supplier 1: Digi-Key; Supplier Part Number 1: 296-28394-ND; Supplier 2: Farnell; Supplier Part Number 2: 2009184; Supplier 3: Newark; Supplier Part Number 3: 45T9752; Supplier 4: Mouser; Supplier Part Number 4: 595-MSP430AFE232IPW; Eco-Plan: Green (RoHS & no Sb/Br); SVS: Yes; Temp Sensor: Yes; USART: 1; Watchdog: Yes; Mounting Technology: Surface Mount; Code_JEDEC: MO-153; ComponentLink1Description: Manufacturer URL; ComponentLink1URL: http://www.ti.com/; ComponentLink2Description: Datasheet; ComponentLink2URL: http://www.ti.com/general/docs/lit/getliterature.tsp?genericPartNumber=MSP430AFE232&fileType=pdf; ComponentLink3Description: Package Specification; ComponentLink3URL: http://www.ti.com/litv/pdf/mpds363
footprint TI-PW24_N (SOP, 24-Leads, Body 7.8x4.4mm, Pitch 0.65mm, IPC Medium Density)
pins: 1 A0.0+ (in) "SD24_A positive analog input A0.0", 2 A0.0- (in) "SD24_A negative analog input A0.0", 3 A1.0+ (in) "SD24_A positive analog input A1.0", 4 A1.0- (in) "SD24_A negative analog input A1.0", 5 AVCC (power) "Analog supply voltage, positive terminal. Must not power up prior to DVCC", 6 AVSS (power) "Analog supply voltage, negative terminal", 7 VREF "Input for an external reference voltage/ output for internal reference voltage (can be used as mid-voltage)", 8 NC, 9 NC, 10 TEST/SBWTCK (in), 11 ~{RST}/NMI/SBWTDIO (io), 12 P1.0/SVSIN/TACLK/SMCLK/TA2 (io), 13 DVSS (power) "Digital supply voltage, negative terminal", 14 P2.6/XT2IN (io), 15 P2.7/XT2OUT (io), 16 DVCC (power) "Digital supply voltage, positive terminal.", 17 P1.1/TA1/SDCLK (io), 18 P1.2/TA0/SD0DO (io), 19 P1.3/UTXD0/SD1DO (io), 20 P1.4/URXD0 (io), 21 P1.5/SIMO0/SVSOUT/TMS (io), 22 P1.6/SOMI0/TA2/TCK (io), 23 P1.7/UCLK0/TA1/TDO/TDI (io), 24 P2.0/STE0/TA0/TDI/TCLK (io)

## MSP430AFE232IPWR
designator U?
12 MHz Mixed Signal Microcontroller with 8 KB Flash, 512 B SRAM and 11 GPIOs, 24-pin SOP (PW), Green (RoHS & no Sb/Br); Manufacturer: Texas Instruments; PartNumber: MSP430AFE232IPWR; ADC: 24-bit Sigma Delta; ADC Channels: 2; Brown Out Reset: Yes; Flash(KB): 8; Frequency(MHz): 12; GPIO: 11; Multiplier: 16x16; SRAM(B): 512; SubFamily: 2 Series; Timers - 16-bit: 1; DatasheetVersion: SLAS701A; PackageVersion: 4040064-6/G; PackageReference: PW24; PackageDescription: 24-Pin Plastic Small Outline, Body 7.8 x 4.4 mm, Pitch 0.65 mm; Supplier 1: Digi-Key; Supplier Part Number 1: MSP430AFE232IPWR-ND; Supplier 2: Mouser; Supplier Part Number 2: 595-MSP430AFE232IPWR; Eco-Plan: Green (RoHS & no Sb/Br); SVS: Yes; Temp Sensor: Yes; USART: 1; Watchdog: Yes; Mounting Technology: Surface Mount; Code_JEDEC: MO-153; ComponentLink1Description: Manufacturer URL; ComponentLink1URL: http://www.ti.com/; ComponentLink2Description: Datasheet; ComponentLink2URL: http://www.ti.com/general/docs/lit/getliterature.tsp?genericPartNumber=MSP430AFE232&fileType=pdf; ComponentLink3Description: Package Specification; ComponentLink3URL: http://www.ti.com/litv/pdf/mpds363
footprint TI-PW24_N (SOP, 24-Leads, Body 7.8x4.4mm, Pitch 0.65mm, IPC Medium Density)
pins: 1 A0.0+ (in) "SD24_A positive analog input A0.0", 2 A0.0- (in) "SD24_A negative analog input A0.0", 3 A1.0+ (in) "SD24_A positive analog input A1.0", 4 A1.0- (in) "SD24_A negative analog input A1.0", 5 AVCC (power) "Analog supply voltage, positive terminal. Must not power up prior to DVCC", 6 AVSS (power) "Analog supply voltage, negative terminal", 7 VREF "Input for an external reference voltage/ output for internal reference voltage (can be used as mid-voltage)", 8 NC, 9 NC, 10 TEST/SBWTCK (in), 11 ~{RST}/NMI/SBWTDIO (io), 12 P1.0/SVSIN/TACLK/SMCLK/TA2 (io), 13 DVSS (power) "Digital supply voltage, negative terminal", 14 P2.6/XT2IN (io), 15 P2.7/XT2OUT (io), 16 DVCC (power) "Digital supply voltage, positive terminal.", 17 P1.1/TA1/SDCLK (io), 18 P1.2/TA0/SD0DO (io), 19 P1.3/UTXD0/SD1DO (io), 20 P1.4/URXD0 (io), 21 P1.5/SIMO0/SVSOUT/TMS (io), 22 P1.6/SOMI0/TA2/TCK (io), 23 P1.7/UCLK0/TA1/TDO/TDI (io), 24 P2.0/STE0/TA0/TDI/TCLK (io)

## MSP430AFE233IPW
designator U?
12 MHz Mixed Signal Microcontroller with 8 KB Flash, 512 B SRAM and 11 GPIOs, 24-pin SOP (PW), Green (RoHS & no Sb/Br); Manufacturer: Texas Instruments; PartNumber: MSP430AFE233IPW; ADC: 24-bit Sigma Delta; ADC Channels: 3; Brown Out Reset: Yes; Flash(KB): 8; Frequency(MHz): 12; GPIO: 11; Multiplier: 16x16; SRAM(B): 512; SubFamily: 2 Series; Timers - 16-bit: 1; DatasheetVersion: SLAS701A; PackageVersion: 4040064-6/G; PackageReference: PW24; PackageDescription: 24-Pin Plastic Small Outline, Body 7.8 x 4.4 mm, Pitch 0.65 mm; Supplier 1: Digi-Key; Supplier Part Number 1: MSP430AFE233IPW-ND; Supplier 2: Farnell; Supplier Part Number 2: 2075811; Supplier 3: Newark; Supplier Part Number 3: 43T7601; Supplier 4: Mouser; Supplier Part Number 4: 595-MSP430AFE233IPW; Eco-Plan: Green (RoHS & no Sb/Br); SVS: Yes; Temp Sensor: Yes; USART: 1; Watchdog: Yes; Mounting Technology: Surface Mount; Code_JEDEC: MO-153; ComponentLink1Description: Manufacturer URL; ComponentLink1URL: http://www.ti.com/; ComponentLink2Description: Datasheet; ComponentLink2URL: http://www.ti.com/general/docs/lit/getliterature.tsp?genericPartNumber=MSP430AFE233&fileType=pdf; ComponentLink3Description: Package Specification; ComponentLink3URL: http://www.ti.com/litv/pdf/mpds363
footprint TI-PW24_N (SOP, 24-Leads, Body 7.8x4.4mm, Pitch 0.65mm, IPC Medium Density)
pins: 1 A0.0+ (in) "SD24_A positive analog input A0.0", 2 A0.0- (in) "SD24_A negative analog input A0.0", 3 A1.0+ (in) "SD24_A positive analog input A1.0 (not available on MSP430AFE2x1)", 4 A1.0- (in) "SD24_A negative analog input A1.0 (not available on MSP430AFE2x1)", 5 AVCC (power) "Analog supply voltage, positive terminal. Must not power up prior to DVCC.", 6 AVSS (power) "Analog supply voltage, negative terminal", 7 VREF "Input for an external reference voltage/ output for internal reference voltage (can be used as mid-voltage)", 8 A2.0+ (in) "SD24_A positive analog input A2.0 (not available on MSP430AFE2x2 and MSP430AFE2x1)", 9 A2.0- (in) "SD24_A negative analog input A2.0 (not available on MSP430AFE2x2 and MSP430AFE2x1)", 10 TEST/SBWTCK (in) "Digital supply voltage, negative terminal", 11 ~{RST}/NMI/SBWTDIO (io), 12 P1.0/SVSIN/TACLK/SMCLK/TA2 (io), 13 DVSS (power) "Digital supply voltage, negative terminal", 14 P2.6/XT2IN (io), 15 P2.7/XT2OUT (io), 16 DVCC (power) "Digital supply voltage, positive terminal.", 17 P1.1/TA1/SDCLK (io), 18 P1.2/TA0/SD0DO (io), 19 P1.3/UTXD0/SD1DO (io), 20 P1.4/URXD0/SD2DO (io), 21 P1.5/SIMO0/SVSOUT/TMS (io), 22 P1.6/SOMI0/TA2/TCK (io), 23 P1.7/UCLK0/TA1/TDO/TDI (io), 24 P2.0/STE0/TA0/TDI/TCLK (io) "Input for an external reference voltage/ output for internal reference voltage (can be used as mid-voltage)"

## MSP430AFE233IPWR
designator U?
12 MHz Mixed Signal Microcontroller with 8 KB Flash, 512 B SRAM and 11 GPIOs, 24-pin SOP (PW), Green (RoHS & no Sb/Br); Manufacturer: Texas Instruments; PartNumber: MSP430AFE233IPWR; ADC: 24-bit Sigma Delta; ADC Channels: 3; Brown Out Reset: Yes; Flash(KB): 8; Frequency(MHz): 12; GPIO: 11; Multiplier: 16x16; SRAM(B): 512; SubFamily: 2 Series; Timers - 16-bit: 1; DatasheetVersion: SLAS701A; PackageVersion: 4040064-6/G; PackageReference: PW24; PackageDescription: 24-Pin Plastic Small Outline, Body 7.8 x 4.4 mm, Pitch 0.65 mm; Supplier 1: Digi-Key; Supplier Part Number 1: MSP430AFE233IPWR-ND; Supplier 2: Farnell; Supplier Part Number 2: 1892143; Supplier 3: Newark; Supplier Part Number 3: 40T4865; Supplier 4: Newark; Supplier Part Number 4: 46T6853; Supplier 5: Mouser; Supplier Part Number 5: 595-MSP430AFE233IPWR; Eco-Plan: Green (RoHS & no Sb/Br); SVS: Yes; Temp Sensor: Yes; USART: 1; Watchdog: Yes; Mounting Technology: Surface Mount; Code_JEDEC: MO-153; ComponentLink1Description: Manufacturer URL; ComponentLink1URL: http://www.ti.com/; ComponentLink2Description: Datasheet; ComponentLink2URL: http://www.ti.com/general/docs/lit/getliterature.tsp?genericPartNumber=MSP430AFE233&fileType=pdf; ComponentLink3Description: Package Specification; ComponentLink3URL: http://www.ti.com/litv/pdf/mpds363
footprint TI-PW24_N (SOP, 24-Leads, Body 7.8x4.4mm, Pitch 0.65mm, IPC Medium Density)
pins: 1 A0.0+ (in) "SD24_A positive analog input A0.0", 2 A0.0- (in) "SD24_A negative analog input A0.0", 3 A1.0+ (in) "SD24_A positive analog input A1.0 (not available on MSP430AFE2x1)", 4 A1.0- (in) "SD24_A negative analog input A1.0 (not available on MSP430AFE2x1)", 5 AVCC (power) "Analog supply voltage, positive terminal. Must not power up prior to DVCC.", 6 AVSS (power) "Analog supply voltage, negative terminal", 7 VREF "Input for an external reference voltage/ output for internal reference voltage (can be used as mid-voltage)", 8 A2.0+ (in) "SD24_A positive analog input A2.0 (not available on MSP430AFE2x2 and MSP430AFE2x1)", 9 A2.0- (in) "SD24_A negative analog input A2.0 (not available on MSP430AFE2x2 and MSP430AFE2x1)", 10 TEST/SBWTCK (in) "Digital supply voltage, negative terminal", 11 ~{RST}/NMI/SBWTDIO (io), 12 P1.0/SVSIN/TACLK/SMCLK/TA2 (io), 13 DVSS (power) "Digital supply voltage, negative terminal", 14 P2.6/XT2IN (io), 15 P2.7/XT2OUT (io), 16 DVCC (power) "Digital supply voltage, positive terminal.", 17 P1.1/TA1/SDCLK (io), 18 P1.2/TA0/SD0DO (io), 19 P1.3/UTXD0/SD1DO (io), 20 P1.4/URXD0/SD2DO (io), 21 P1.5/SIMO0/SVSOUT/TMS (io), 22 P1.6/SOMI0/TA2/TCK (io), 23 P1.7/UCLK0/TA1/TDO/TDI (io), 24 P2.0/STE0/TA0/TDI/TCLK (io) "Input for an external reference voltage/ output for internal reference voltage (can be used as mid-voltage)"

## MSP430AFE251IPW
designator U?
12 MHz Mixed Signal Microcontroller with 16 KB Flash, 512 B SRAM and 11 GPIOs, 24-pin SOP (PW), Green (RoHS & no Sb/Br); Manufacturer: Texas Instruments; PartNumber: MSP430AFE251IPW; ADC: 24-bit Sigma Delta; ADC Channels: 1; Brown Out Reset: Yes; Flash(KB): 16; Frequency(MHz): 12; GPIO: 11; Multiplier: 16x16; SRAM(B): 512; SubFamily: 2 Series; DatasheetVersion: SLAS701A; PackageVersion: 4040064-6/G; PackageReference: PW24; PackageDescription: 24-Pin Plastic Small Outline, Body 7.8 x 4.4 mm, Pitch 0.65 mm; Supplier 1: Digi-Key; Supplier Part Number 1: 296-33411-5-ND; Supplier 2: Mouser; Supplier Part Number 2: 595-MSP430AFE251IPW; Eco-Plan: Green (RoHS & no Sb/Br); SVS: Yes; Temp Sensor: Yes; Timers - 16-bit: 1; USART: 1; Watchdog: Yes; Mounting Technology: Surface Mount; Code_JEDEC: MO-153; ComponentLink1Description: Manufacturer URL; ComponentLink1URL: http://www.ti.com/; ComponentLink2Description: Datasheet; ComponentLink2URL: http://www.ti.com/general/docs/lit/getliterature.tsp?genericPartNumber=MSP430AFE251&fileType=pdf; ComponentLink3Description: Package Specification; ComponentLink3URL: http://www.ti.com/litv/pdf/mpds363
footprint TI-PW24_N (SOP, 24-Leads, Body 7.8x4.4mm, Pitch 0.65mm, IPC Medium Density)
pins: 1 A0.0+ (in) "SD24_A positive analog input A0.0", 2 A0.0- (in) "SD24_A negative analog input A0.0", 3 NC "Connect NC pins to analog ground (AVSS)", 4 NC "Connect NC pins to analog ground (AVSS)", 5 AVCC (power) "Analog supply voltage, positive terminal. Must not power up prior to DVCC.", 6 AVSS (power) "Analog supply voltage, negative terminal", 7 VREF "Input for an external reference voltage/ output for internal reference voltage (can be used as mid-voltage)", 8 NC "Connect NC pins to analog ground (AVSS)", 9 NC "Connect NC pins to analog ground (AVSS)", 10 TEST/SBWTCK (in), 11 ~{RST}/NMI/SBWTDIO (io), 12 P1.0/SVSIN/TACLK/SMCLK/TA2 (io), 13 DVSS (power) "Digital supply voltage, negative terminal", 14 P2.6/XT2IN (io), 15 P2.7/XT2OUT (io), 16 DVCC (power) "Digital supply voltage, positive terminal.", 17 P1.1/TA1/SDCLK (io), 18 P1.2/TA0/SD0DO (io), 19 P1.3/UTXD0 (io), 20 P1.4/URXD0 (io), 21 P1.5/SIMO0/SVSOUT/TMS (io), 22 P1.6/SOMI0/TA2/TCK (io), 23 P1.7/UCLK0/TA1/TDO/TDI (io), 24 P2.0/STE0/TA0/TDI/TCLK (io)

## MSP430AFE251IPWR
designator U?
12 MHz Mixed Signal Microcontroller with 16 KB Flash, 512 B SRAM and 11 GPIOs, 24-pin SOP (PW), Green (RoHS & no Sb/Br); Manufacturer: Texas Instruments; PartNumber: MSP430AFE251IPWR; ADC: 24-bit Sigma Delta; ADC Channels: 1; Brown Out Reset: Yes; Flash(KB): 16; Frequency(MHz): 12; GPIO: 11; Multiplier: 16x16; SRAM(B): 512; SubFamily: 2 Series; DatasheetVersion: SLAS701A; PackageVersion: 4040064-6/G; PackageReference: PW24; PackageDescription: 24-Pin Plastic Small Outline, Body 7.8 x 4.4 mm, Pitch 0.65 mm; Supplier 1: Digi-Key; Supplier Part Number 1: MSP430AFE251IPWR-ND; Supplier 2: Mouser; Supplier Part Number 2: 595-MSP430AFE251IPWR; Eco-Plan: Green (RoHS & no Sb/Br); SVS: Yes; Temp Sensor: Yes; Timers - 16-bit: 1; USART: 1; Watchdog: Yes; Mounting Technology: Surface Mount; Code_JEDEC: MO-153; ComponentLink1Description: Manufacturer URL; ComponentLink1URL: http://www.ti.com/; ComponentLink2Description: Datasheet; ComponentLink2URL: http://www.ti.com/general/docs/lit/getliterature.tsp?genericPartNumber=MSP430AFE251&fileType=pdf; ComponentLink3Description: Package Specification; ComponentLink3URL: http://www.ti.com/litv/pdf/mpds363
footprint TI-PW24_N (SOP, 24-Leads, Body 7.8x4.4mm, Pitch 0.65mm, IPC Medium Density)
pins: 1 A0.0+ (in) "SD24_A positive analog input A0.0", 2 A0.0- (in) "SD24_A negative analog input A0.0", 3 NC "Connect NC pins to analog ground (AVSS)", 4 NC "Connect NC pins to analog ground (AVSS)", 5 AVCC (power) "Analog supply voltage, positive terminal. Must not power up prior to DVCC.", 6 AVSS (power) "Analog supply voltage, negative terminal", 7 VREF "Input for an external reference voltage/ output for internal reference voltage (can be used as mid-voltage)", 8 NC "Connect NC pins to analog ground (AVSS)", 9 NC "Connect NC pins to analog ground (AVSS)", 10 TEST/SBWTCK (in), 11 ~{RST}/NMI/SBWTDIO (io), 12 P1.0/SVSIN/TACLK/SMCLK/TA2 (io), 13 DVSS (power) "Digital supply voltage, negative terminal", 14 P2.6/XT2IN (io), 15 P2.7/XT2OUT (io), 16 DVCC (power) "Digital supply voltage, positive terminal.", 17 P1.1/TA1/SDCLK (io), 18 P1.2/TA0/SD0DO (io), 19 P1.3/UTXD0 (io), 20 P1.4/URXD0 (io), 21 P1.5/SIMO0/SVSOUT/TMS (io), 22 P1.6/SOMI0/TA2/TCK (io), 23 P1.7/UCLK0/TA1/TDO/TDI (io), 24 P2.0/STE0/TA0/TDI/TCLK (io)

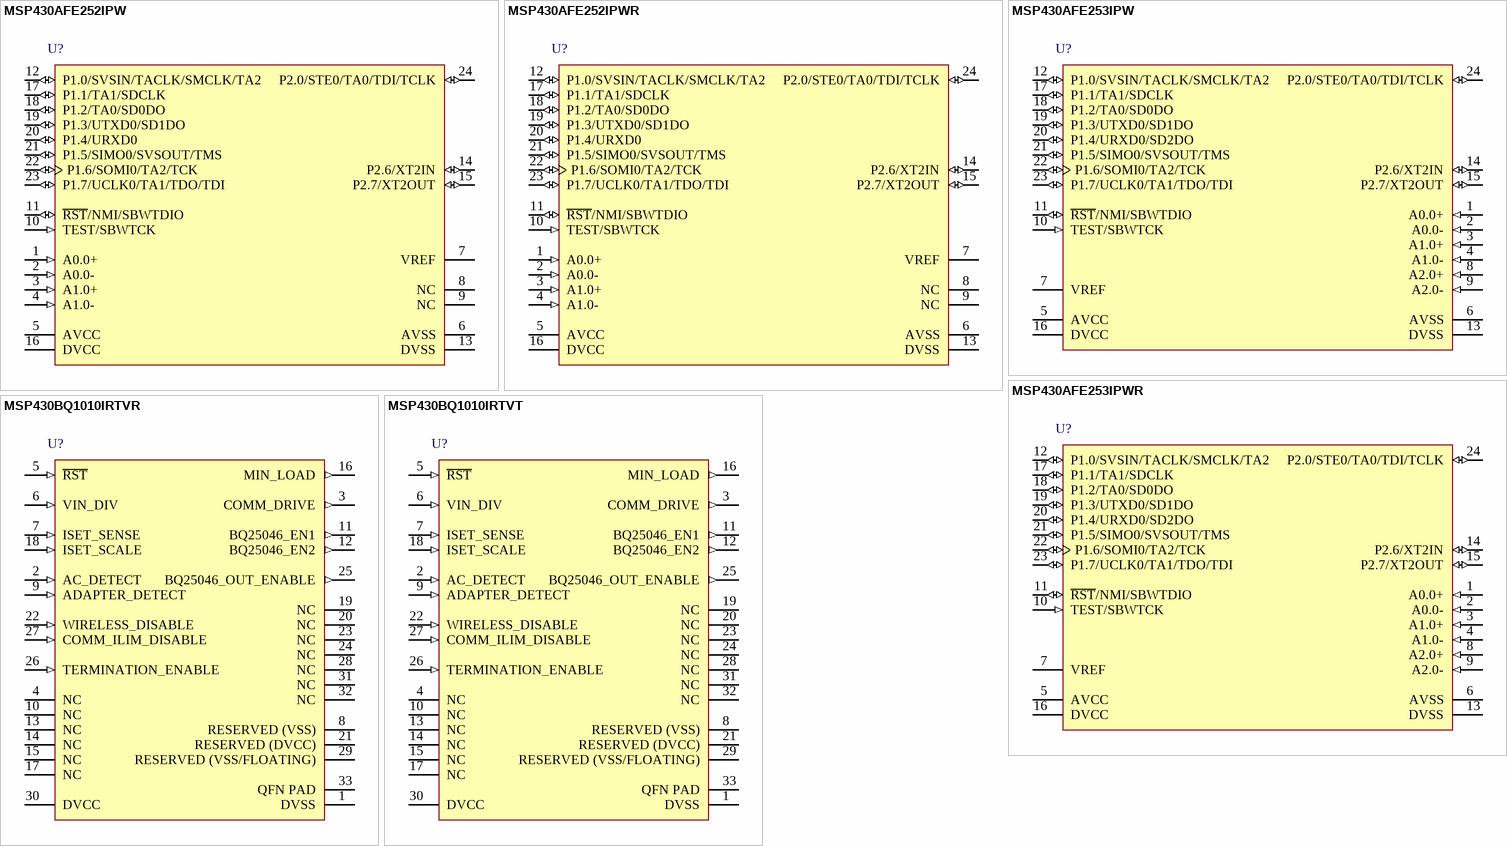
[diagram p11: symbols MSP430AFE252IPW to MSP430BQ1010IRTVT]